# Altium schematic symbol library MPU6050.SchLib: 1 symbol
Pins are listed as number, name and electrical type; pins without a type are passive.

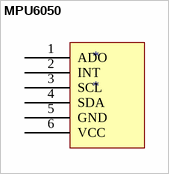
[diagram p0: symbol MPU6050]

## MPU6050
designator *
footprint MPU6050
pins: 1 ADO, 2 INT, 3 SCL, 4 SDA, 5 GND, 6 VCC